# Altium footprint library AMPHENOL RJHSE-5380-04.PCBLIB: 1 footprints
Each footprint in its own frame and in the unit in brackets; x right, y up, seen from the top. Pads: shape width x height; smd on the part's side, far side on the other; paste and mask are expansions set on the pad; w line width, h text height; cw(c..) or ccw(c..) is an arc to the next point about the centre after c.
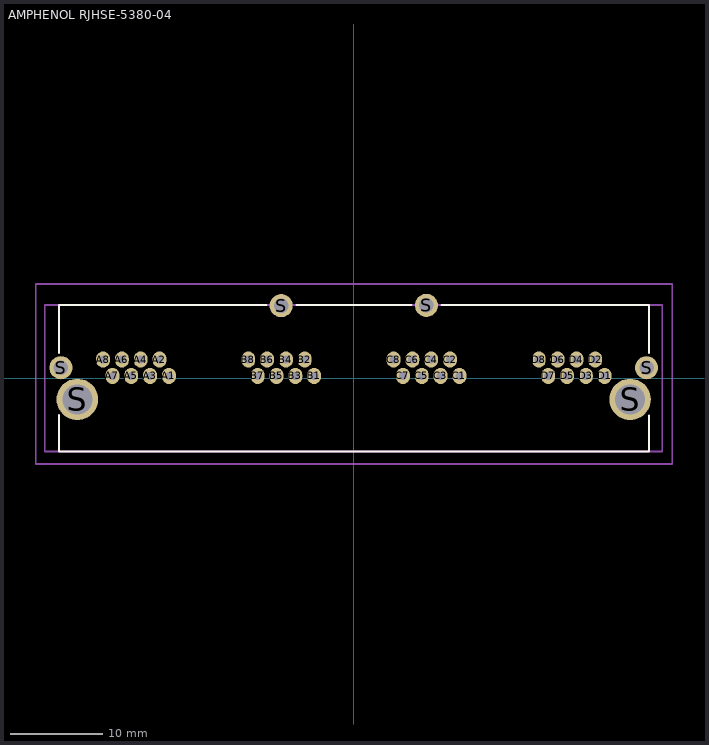
[diagram p0: the footprint, top view; thin cyan lines are the x and y axes]

## AMPHENOL RJHSE-5380-04 [mm]
height 13.46
pads (38):
  oval 1.5x1.75 hole 0.9: A1(-20.04,0.24) A2(-21.06,2.02) A3(-22.08,0.24) A4(-23.1,2.02) A5(-24.12,0.24) A6(-25.14,2.02) A7(-26.16,0.24) A8(-27.18,2.02) B1(-4.29,0.24) B2(-5.31,2.02) B3(-6.33,0.24) B4(-7.35,2.02) B5(-8.37,0.24) B6(-9.39,2.02) B7(-10.41,0.24) B8(-11.43,2.02) C1(11.46,0.24) C2(10.44,2.02) C3(9.42,0.24) C4(8.4,2.02) C5(7.38,0.24) C6(6.36,2.02) C7(5.34,0.24) C8(4.32,2.02) D1(27.21,0.24) D2(26.19,2.02) D3(25.17,0.24) D4(24.15,2.02) D5(23.13,0.24) D6(22.11,2.02) D7(21.09,0.24) D8(20.07,2.02)
  round 2.5 hole 1.57: S(-31.75,1.13) S(-7.87,7.86) S(7.88,7.89) S(31.75,1.13)
  round 4.5 hole 3.25: S(-29.97,-2.3) S(29.97,-2.3)
Top Overlay:
  lines w0.2: -31.97,-3.975 -31.97,-7.95 32.03,-7.95 32.03,-4.05 ; -31.97,2.7 -31.97,7.95 -9.47,7.95 ; -6.22,7.95 6.28,7.95 ; 9.53,7.95 32.03,7.95 ; 32.03,2.7 32.03,7.95 ; -9.47,7.95 -9.47,7.95 ; 32.03,7.95 32.03,7.95
Mechanical 1:
  lines w0.2: -33.495,-7.95 33.456,-7.95 33.456,7.95 -33.495,7.95 -33.495,-7.95
Mechanical 15:
  lines w0.2: -34.47,-9.3 34.53,-9.3 34.53,10.2 -34.47,10.2 -34.47,-9.3
3D body "Amphenol RJHSE-5380-04-REVT1.STEP": height 14.68, standoff -4.17, extent -33.47,-8 33.481,7.9